# EAGLE library part SHUNT (library Shunt_V1.0)
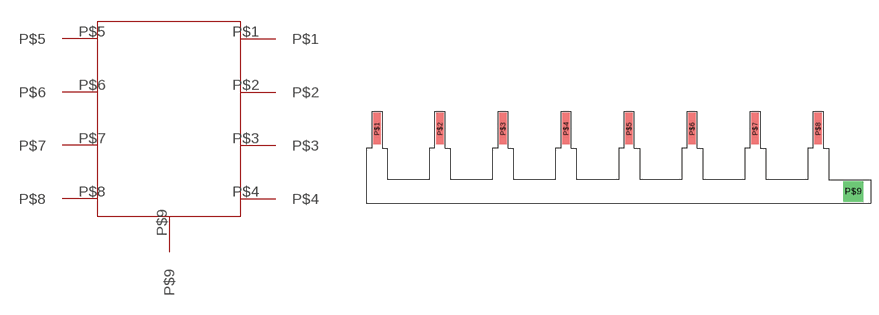
[diagram p0: symbol with the pads of SHUNT; footprint SHUNT]

Designator prefix -

## SHUNT  [SHUNT]
P$1  P$1
P$2  P$2
P$3  P$3
P$4  P$4
P$5  P$5
P$6  P$6
P$7  P$7
P$8  P$8
P$9  P$9

## Footprint SHUNT (pad centres in mm)
smd 1.4 x 6: P$1 -85,-3.3; P$2 -73,-3.3; P$3 -61,-3.3; P$4 -49,-3.3; P$5 -37,-3.3; P$6 -25,-3.3; P$7 -13,-3.3; P$8 -1,-3.3
drill 2 pad 3.81 square: P$9 5.692,-15.254